# EAGLE library part DS26C32ATM (library C8051F300)
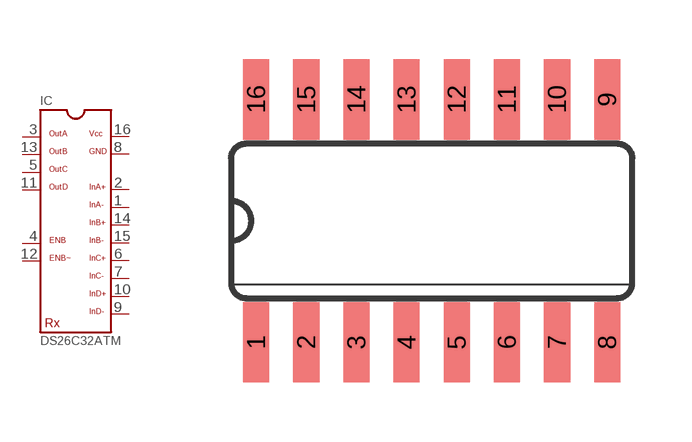
[diagram p18: symbol with the pads of SO16; footprint SO16]

Designator prefix IC

## DS26C32ATM  [SO16]
1  1  in
2  2  in
3  3  out
4  4  pas
5  5  out
6  6  in
7  7  in
8  8  pas
9  9  in
10  10  in
11  11  out
12  12  pas
13  13  out
14  14  in
15  15  in
16  16  pas

## Footprint SO16 (pad centres in mm)
smd 0.66 x 2.032: 1 -4.445,-3.073; 2 -3.175,-3.073; 3 -1.905,-3.073; 4 -0.635,-3.073; 5 0.635,-3.073; 6 1.905,-3.073; 7 3.175,-3.073; 8 4.445,-3.073; 9 4.445,3.073; 10 3.175,3.073; 11 1.905,3.073; 12 0.635,3.073; 13 -0.635,3.073; 14 -1.905,3.073; 15 -3.175,3.073; 16 -4.445,3.073